# Altium footprint library SC70 6-Lead.PcbLib: 1 footprints
Each footprint in its own frame and in the unit in brackets; x right, y up, seen from the top. Pads: shape width x height; smd on the part's side, far side on the other; paste and mask are expansions set on the pad; w line width, h text height; cw(c..) or ccw(c..) is an arc to the next point about the centre after c.
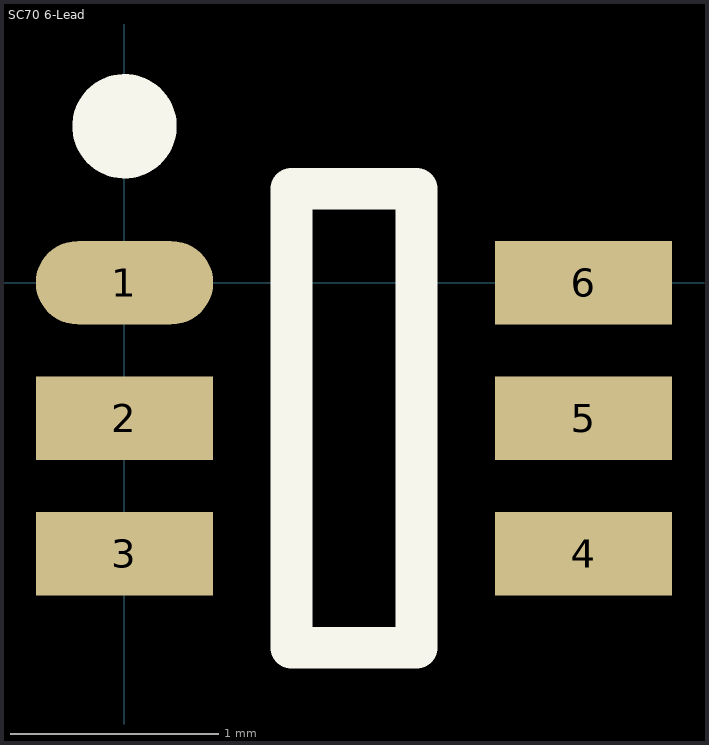
[diagram p0: the footprint, top view; thin cyan lines are the x and y axes]

## SC70 6-Lead [mm] "6-Lead SC70, EIAJ SC88, 1.25mm Wide"
height 0.95
pads (6):
  oval 0.85x0.4 smd: 1(0,0)
  rect 0.85x0.4 smd: 2(0,-0.65) 3(0,-1.3) 4(2.2,-1.3) 5(2.2,-0.65) 6(2.2,0)
Top Overlay:
  circle w0.25: c0,0.75 r0.125
  lines w0.2: 0.8,-1.75 0.8,0.45 1.4,0.45 1.4,-1.75 0.8,-1.75
3D body "SC70 6-Lead.step": height 0.95, standoff 0.02, extent -0.025,-1.75 2.225,0.45